# EAGLE library part SP3232 (library Communication)
1000 Kbps RS232 Transceiver
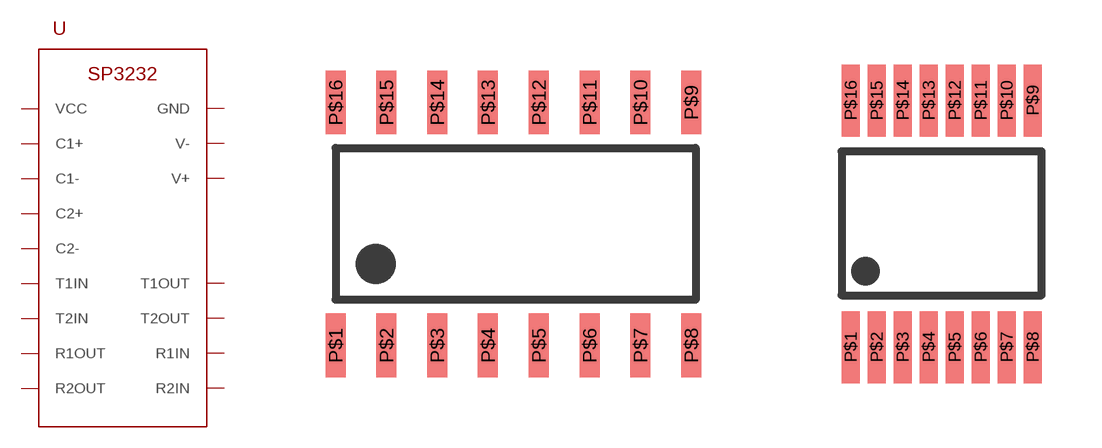
[diagram p1: symbol with the pads of SOIC16; footprints SOIC16, TSSOP-16]

Designator prefix U

## SP3232/SOIC16  [SOIC16]
P$1  C1+
P$2  V+
P$3  C1-
P$4  C2+
P$5  C2-
P$6  V-
P$7  T2OUT
P$8  R2IN
P$9  R2OUT
P$10  T2IN
P$11  T1IN
P$12  R1OUT
P$13  R1IN
P$14  T1OUT
P$15  GND
P$16  VCC

## SP3232/TSSOP-16  [TSSOP-16]
Pads as for SOIC16

## Footprint SOIC16 (pad centres in mm)
smd 0.5 x 1.6: P$1 0,-3.04; P$2 1.27,-3.04; P$3 2.54,-3.04; P$4 3.81,-3.04; P$5 5.08,-3.04; P$6 6.35,-3.04; P$7 7.62,-3.04; P$8 8.89,-3.04; P$9 8.89,3.04; P$10 7.62,3.04; P$11 6.35,3.04; P$12 5.08,3.04; P$13 3.81,3.04; P$14 2.54,3.04; P$15 1.27,3.04; P$16 0,3.04

## Footprint TSSOP-16 (pad centres in mm)
smd 0.45 x 1.8: P$1 -2.275,-3; P$2 -1.625,-3; P$3 -0.975,-3; P$4 -0.325,-3; P$5 0.325,-3; P$6 0.975,-3; P$7 1.625,-3; P$8 2.275,-3; P$9 2.275,3.175; P$10 1.625,3.175; P$11 0.975,3.175; P$12 0.325,3.175; P$13 -0.325,3.175; P$14 -0.975,3.175; P$15 -1.625,3.175; P$16 -2.275,3.175